# Altium integrated library Capacitor - Aluminium TH.IntLib: 4591 symbols (part 34 of 68)
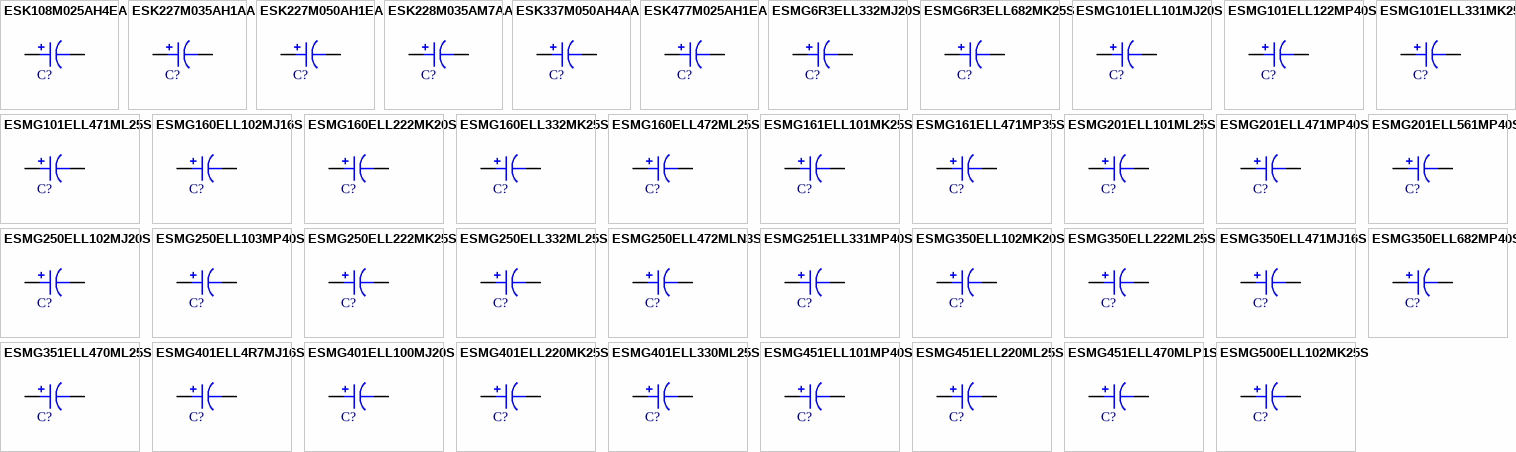
[diagram p147: symbols ESK108M025AH4EA to ESMG500ELL102MK25S]

## ESMG160ELL222MK20S
designator C?, comment 2200uF  (value not drawn)
CAP ALUM 2200UF 20% 16V RADIAL; Part Number: ESMG160ELL222MK20S; Manufacturer: United Chemi-Con; TemperatureRange: -40C ~ 85C; Type: Polar; Ripple Current: 1.295A @ 120Hz; Value: 2200uF; PartId: 23019; Supplier 1: Digi-Key; Supplier Part Number 1: 565-1042-ND; ComponentLink1Description: Datasheet; ComponentLink1URL: http://www.chemi-con.com/upload/files/6/3/873997624d9b1bc8060f8.pdf; ComponentLink2Description: Digi-Key Listing; ComponentLink2URL: https://www.digikey.com/product-detail/en/united-chemi-con/ESMG160ELL222MK20S/565-1042-ND/755558; Tolerance: 20%; Voltage: 16V; Price: 0; Device Package: Radial, Can, 12.5mm
footprint CAP AL TH D12.5 L5 H21.5
pins: 1, 2

## ESMG160ELL332MK25S
designator C?, comment 3300uF  (value not drawn)
CAP ALUM 3300UF 20% 16V RADIAL; Part Number: ESMG160ELL332MK25S; Manufacturer: United Chemi-Con; TemperatureRange: -40C ~ 85C; Type: Polar; Ripple Current: 1.655A @ 120Hz; Value: 3300uF; PartId: 23705; Supplier 1: Digi-Key; Supplier Part Number 1: 565-1043-ND; ComponentLink1Description: Datasheet; ComponentLink1URL: http://www.chemi-con.com/upload/files/6/3/873997624d9b1bc8060f8.pdf; ComponentLink2Description: Digi-Key Listing; ComponentLink2URL: https://www.digikey.com/product-detail/en/united-chemi-con/ESMG160ELL332MK25S/565-1043-ND/755559; Tolerance: 20%; Voltage: 16V; Price: 1.14; Device Package: Radial, Can, 12.5mm
footprint CAP AL TH D12.5 L5 H26.5
pins: 1, 2

## ESMG160ELL472ML25S
designator C?, comment 4700uF  (value not drawn)
CAP ALUM 4700UF 20% 16V RADIAL; Part Number: ESMG160ELL472ML25S; Manufacturer: United Chemi-Con; TemperatureRange: -40C ~ 85C; Type: Polar; Ripple Current: 2.09A @ 120Hz; Value: 4700uF; PartId: 26664; Supplier 1: Digi-Key; Supplier Part Number 1: 565-1044-ND; ComponentLink1Description: Datasheet; ComponentLink1URL: http://www.chemi-con.com/upload/files/6/3/873997624d9b1bc8060f8.pdf; ComponentLink2Description: Digi-Key Listing; ComponentLink2URL: https://www.digikey.com/product-detail/en/united-chemi-con/ESMG160ELL472ML25S/565-1044-ND/755560; Tolerance: 20%; Voltage: 16V; Price: 1.63; Device Package: Radial, Can, 16mm
footprint CAP AL TH D16 L7.5 H26.5
pins: 1, 2

## ESMG161ELL101MK25S
designator C?, comment 100uF  (value not drawn)
CAP ALUM 100UF 20% 160V RADIAL; Part Number: ESMG161ELL101MK25S; Manufacturer: United Chemi-Con; TemperatureRange: -40C ~ 85C; Type: Polar; Ripple Current: 430mA @ 120Hz; Value: 100uF; PartId: 23738; Supplier 1: Digi-Key; Supplier Part Number 1: 565-1169-ND; ComponentLink1Description: Datasheet; ComponentLink1URL: http://www.chemi-con.com/upload/files/6/3/873997624d9b1bc8060f8.pdf; ComponentLink2Description: Digi-Key Listing; ComponentLink2URL: https://www.digikey.com/product-detail/en/united-chemi-con/ESMG161ELL101MK25S/565-1169-ND/755685; Tolerance: 20%; Voltage: 160V; Price: 1.54; Device Package: Radial, Can, 12.5mm
footprint CAP AL TH D12.5 L5 H26.5
pins: 1, 2

## ESMG161ELL471MP35S
designator C?, comment 470uF  (value not drawn)
CAP ALUM 470UF 20% 160V RADIAL; Part Number: ESMG161ELL471MP35S; Manufacturer: United Chemi-Con; TemperatureRange: -40C ~ 85C; Type: Polar; Ripple Current: 1.34A @ 120Hz; Value: 470uF; PartId: 27604; Supplier 1: Digi-Key; Supplier Part Number 1: 565-1176-ND; ComponentLink1Description: Datasheet; ComponentLink1URL: http://www.chemi-con.com/upload/files/6/3/873997624d9b1bc8060f8.pdf; ComponentLink2Description: Digi-Key Listing; ComponentLink2URL: https://www.digikey.com/product-detail/en/united-chemi-con/ESMG161ELL471MP35S/565-1176-ND/755692; Tolerance: 20%; Voltage: 160V; Price: 4.85; Device Package: Radial, Can, 22mm
footprint CAP AL TH D22 L10 H43
pins: 1, 2

## ESMG201ELL101ML25S
designator C?, comment 100uF  (value not drawn)
CAP ALUM 100UF 20% 200V RADIAL; Part Number: ESMG201ELL101ML25S; Manufacturer: United Chemi-Con; TemperatureRange: -40C ~ 85C; Type: Polar; Ripple Current: 475mA @ 120Hz; Value: 100uF; PartId: 26702; Supplier 1: Digi-Key; Supplier Part Number 1: 565-1185-ND; ComponentLink1Description: Datasheet; ComponentLink1URL: http://www.chemi-con.com/upload/files/6/3/873997624d9b1bc8060f8.pdf; ComponentLink2Description: Digi-Key Listing; ComponentLink2URL: https://www.digikey.com/product-detail/en/united-chemi-con/ESMG201ELL101ML25S/565-1185-ND/755701; Tolerance: 20%; Voltage: 200V; Price: 2.01; Device Package: Radial, Can, 16mm
footprint CAP AL TH D16 L7.5 H26.5
pins: 1, 2

## ESMG201ELL471MP40S
designator C?, comment 470uF  (value not drawn)
CAP ALUM 470UF 20% 200V RADIAL; Part Number: ESMG201ELL471MP40S; Manufacturer: United Chemi-Con; TemperatureRange: -40C ~ 85C; Type: Polar; Ripple Current: 1.35A @ 120Hz; Value: 470uF; PartId: 27585; Supplier 1: Digi-Key; Supplier Part Number 1: 565-1195-ND; ComponentLink1Description: Datasheet; ComponentLink1URL: http://www.chemi-con.com/upload/files/6/3/873997624d9b1bc8060f8.pdf; ComponentLink2Description: Digi-Key Listing; ComponentLink2URL: https://www.digikey.com/product-detail/en/united-chemi-con/ESMG201ELL471MP40S/565-1195-ND/755711; Tolerance: 20%; Voltage: 200V; Price: 4.93; Device Package: Radial, Can, 22mm
footprint CAP AL TH D22 L10 H43
pins: 1, 2

## ESMG201ELL561MP40S
designator C?, comment 560uF  (value not drawn)
CAP ALUM 560UF 20% 200V RADIAL; Part Number: ESMG201ELL561MP40S; Manufacturer: United Chemi-Con; TemperatureRange: -40C ~ 85C; Type: Polar; Ripple Current: 1.43A @ 120Hz; Value: 560uF; PartId: 27586; Supplier 1: Digi-Key; Supplier Part Number 1: 565-1196-ND; ComponentLink1Description: Datasheet; ComponentLink1URL: http://www.chemi-con.com/upload/files/6/3/873997624d9b1bc8060f8.pdf; ComponentLink2Description: Digi-Key Listing; ComponentLink2URL: https://www.digikey.com/product-detail/en/united-chemi-con/ESMG201ELL561MP40S/565-1196-ND/755712; Tolerance: 20%; Voltage: 200V; Price: 5.45; Device Package: Radial, Can, 22mm
footprint CAP AL TH D22 L10 H43
pins: 1, 2

## ESMG250ELL102MJ20S
designator C?, comment 1000uF  (value not drawn)
CAP ALUM 1000UF 20% 25V RADIAL; Part Number: ESMG250ELL102MJ20S; Manufacturer: United Chemi-Con; TemperatureRange: -40C ~ 85C; Type: Polar; Ripple Current: 955mA @ 120Hz; Value: 1000uF; PartId: 25638; Supplier 1: Digi-Key; Supplier Part Number 1: 565-1063-ND; ComponentLink1Description: Datasheet; ComponentLink1URL: http://www.chemi-con.com/upload/files/6/3/873997624d9b1bc8060f8.pdf; ComponentLink2Description: Digi-Key Listing; ComponentLink2URL: https://www.digikey.com/product-detail/en/united-chemi-con/ESMG250ELL102MJ20S/565-1063-ND/755579; Tolerance: 20%; Voltage: 25V; Price: 0.73; Device Package: Radial, Can, 10mm
footprint CAP AL TH D10 L5 H22
pins: 1, 2

## ESMG250ELL103MP40S
designator C?, comment 10000uF  (value not drawn)
CAP ALUM 10000UF 20% 25V RADIAL; Part Number: ESMG250ELL103MP40S; Manufacturer: United Chemi-Con; TemperatureRange: -40C ~ 85C; Type: Polar; Ripple Current: 3.24A @ 120Hz; Value: 10000uF; PartId: 27579; Supplier 1: Digi-Key; Supplier Part Number 1: 565-1074-ND; ComponentLink1Description: Datasheet; ComponentLink1URL: http://www.chemi-con.com/upload/files/6/3/873997624d9b1bc8060f8.pdf; ComponentLink2Description: Digi-Key Listing; ComponentLink2URL: https://www.digikey.com/product-detail/en/united-chemi-con/ESMG250ELL103MP40S/565-1074-ND/755590; Tolerance: 20%; Voltage: 25V; Price: 4.53; Device Package: Radial, Can, 22mm
footprint CAP AL TH D22 L10 H43
pins: 1, 2

## ESMG250ELL222MK25S
designator C?, comment 2200uF  (value not drawn)
CAP ALUM 2200UF 20% 25V RADIAL; Part Number: ESMG250ELL222MK25S; Manufacturer: United Chemi-Con; TemperatureRange: -40C ~ 85C; Type: Polar; Ripple Current: 1.54A @ 120Hz; Value: 2200uF; PartId: 23707; Supplier 1: Digi-Key; Supplier Part Number 1: 565-1064-ND; ComponentLink1Description: Datasheet; ComponentLink1URL: http://www.chemi-con.com/upload/files/6/3/873997624d9b1bc8060f8.pdf; ComponentLink2Description: Digi-Key Listing; ComponentLink2URL: https://www.digikey.com/product-detail/en/united-chemi-con/ESMG250ELL222MK25S/565-1064-ND/755580; Tolerance: 20%; Voltage: 25V; Price: 1.15; Device Package: Radial, Can, 12.5mm
footprint CAP AL TH D12.5 L5 H26.5
pins: 1, 2

## ESMG250ELL332ML25S
designator C?, comment 3300uF  (value not drawn)
CAP ALUM 3300UF 20% 25V RADIAL; Part Number: ESMG250ELL332ML25S; Manufacturer: United Chemi-Con; TemperatureRange: -40C ~ 85C; Type: Polar; Ripple Current: 1.975A @ 120Hz; Value: 3300uF; PartId: 26684; Supplier 1: Digi-Key; Supplier Part Number 1: 565-1065-ND; ComponentLink1Description: Datasheet; ComponentLink1URL: http://www.chemi-con.com/upload/files/6/3/873997624d9b1bc8060f8.pdf; ComponentLink2Description: Digi-Key Listing; ComponentLink2URL: https://www.digikey.com/product-detail/en/united-chemi-con/ESMG250ELL332ML25S/565-1065-ND/755581; Tolerance: 20%; Voltage: 25V; Price: 1.81; Device Package: Radial, Can, 16mm
footprint CAP AL TH D16 L7.5 H26.5
pins: 1, 2

## ESMG250ELL472MLN3S
designator C?, comment 4700uF  (value not drawn)
CAP ALUM 4700UF 20% 25V RADIAL; Part Number: ESMG250ELL472MLN3S; Manufacturer: United Chemi-Con; TemperatureRange: -40C ~ 85C; Type: Polar; Ripple Current: 2.42A @ 120Hz; Value: 4700uF; PartId: 27179; Supplier 1: Digi-Key; Supplier Part Number 1: 565-1067-ND; ComponentLink1Description: Datasheet; ComponentLink1URL: http://www.chemi-con.com/upload/files/6/3/873997624d9b1bc8060f8.pdf; ComponentLink2Description: Digi-Key Listing; ComponentLink2URL: https://www.digikey.com/product-detail/en/united-chemi-con/ESMG250ELL472MLN3S/565-1067-ND/755583; Tolerance: 20%; Voltage: 25V; Price: 1.95; Device Package: Radial, Can, 16mm
footprint CAP AL TH D16 L7.5 H33.5
pins: 1, 2

## ESMG251ELL331MP40S
designator C?, comment 330uF  (value not drawn)
CAP ALUM 330UF 20% 250V RADIAL; Part Number: ESMG251ELL331MP40S; Manufacturer: United Chemi-Con; TemperatureRange: -40C ~ 85C; Type: Polar; Ripple Current: 1.06A @ 120Hz; Value: 330uF; PartId: 27582; Supplier 1: Digi-Key; Supplier Part Number 1: 565-1214-ND; ComponentLink1Description: Datasheet; ComponentLink1URL: http://www.chemi-con.com/upload/files/6/3/873997624d9b1bc8060f8.pdf; ComponentLink2Description: Digi-Key Listing; ComponentLink2URL: https://www.digikey.com/product-detail/en/united-chemi-con/ESMG251ELL331MP40S/565-1214-ND/755730; Tolerance: 20%; Voltage: 250V; Price: 5.1; Device Package: Radial, Can, 22mm
footprint CAP AL TH D22 L10 H43
pins: 1, 2

## ESMG350ELL102MK20S
designator C?, comment 1000uF  (value not drawn)
CAP ALUM 1000UF 20% 35V RADIAL; Part Number: ESMG350ELL102MK20S; Manufacturer: United Chemi-Con; TemperatureRange: -40C ~ 85C; Type: Polar; Ripple Current: 1.145A @ 120Hz; Value: 1000uF; PartId: 23012; Supplier 1: Digi-Key; Supplier Part Number 1: 565-1086-ND; ComponentLink1Description: Datasheet; ComponentLink1URL: http://www.chemi-con.com/upload/files/6/3/873997624d9b1bc8060f8.pdf; ComponentLink2Description: Digi-Key Listing; ComponentLink2URL: https://www.digikey.com/product-detail/en/united-chemi-con/ESMG350ELL102MK20S/565-1086-ND/755602; Tolerance: 20%; Voltage: 35V; Price: 0; Device Package: Radial, Can, 12.5mm
footprint CAP AL TH D12.5 L5 H21.5
pins: 1, 2

## ESMG350ELL222ML25S
designator C?, comment 2200uF  (value not drawn)
CAP ALUM 2200UF 20% 35V RADIAL; Part Number: ESMG350ELL222ML25S; Manufacturer: United Chemi-Con; TemperatureRange: -40C ~ 85C; Type: Polar; Ripple Current: 1.785A @ 120Hz; Value: 2200uF; PartId: 26675; Supplier 1: Digi-Key; Supplier Part Number 1: 565-1087-ND; ComponentLink1Description: Datasheet; ComponentLink1URL: http://www.chemi-con.com/upload/files/6/3/873997624d9b1bc8060f8.pdf; ComponentLink2Description: Digi-Key Listing; ComponentLink2URL: https://www.digikey.com/product-detail/en/united-chemi-con/ESMG350ELL222ML25S/565-1087-ND/755603; Tolerance: 20%; Voltage: 35V; Price: 1.78; Device Package: Radial, Can, 16mm
footprint CAP AL TH D16 L7.5 H26.5
pins: 1, 2

## ESMG350ELL471MJ16S
designator C?, comment 470uF  (value not drawn)
CAP ALUM 470UF 20% 35V RADIAL; Part Number: ESMG350ELL471MJ16S; Manufacturer: United Chemi-Con; TemperatureRange: -40C ~ 85C; Type: Polar; Ripple Current: 645mA @ 120Hz; Value: 470uF; PartId: 25320; Supplier 1: Digi-Key; Supplier Part Number 1: 565-1085-ND; ComponentLink1Description: Datasheet; ComponentLink1URL: http://www.chemi-con.com/upload/files/6/3/873997624d9b1bc8060f8.pdf; ComponentLink2Description: Digi-Key Listing; ComponentLink2URL: https://www.digikey.com/product-detail/en/united-chemi-con/ESMG350ELL471MJ16S/565-1085-ND/755601; Tolerance: 20%; Voltage: 35V; Price: 0.66; Device Package: Radial, Can, 10mm
footprint CAP AL TH D10 L5 H17.5
pins: 1, 2

## ESMG350ELL682MP40S
designator C?, comment 6800uF  (value not drawn)
CAP ALUM 6800UF 20% 35V RADIAL; Part Number: ESMG350ELL682MP40S; Manufacturer: United Chemi-Con; TemperatureRange: -40C ~ 85C; Type: Polar; Ripple Current: 3.09A @ 120Hz; Value: 6800uF; PartId: 27593; Supplier 1: Digi-Key; Supplier Part Number 1: 565-1096-ND; ComponentLink1Description: Datasheet; ComponentLink1URL: http://www.chemi-con.com/upload/files/6/3/873997624d9b1bc8060f8.pdf; ComponentLink2Description: Digi-Key Listing; ComponentLink2URL: https://www.digikey.com/product-detail/en/united-chemi-con/ESMG350ELL682MP40S/565-1096-ND/755612; Tolerance: 20%; Voltage: 35V; Price: 4.65; Device Package: Radial, Can, 22mm
footprint CAP AL TH D22 L10 H43
pins: 1, 2

## ESMG351ELL470ML25S
designator C?, comment 47uF  (value not drawn)
CAP ALUM 47UF 20% 350V RADIAL; Part Number: ESMG351ELL470ML25S; Manufacturer: United Chemi-Con; TemperatureRange: -40C ~ 85C; Type: Polar; Ripple Current: 325mA @ 120Hz; Value: 47uF; PartId: 26705; Supplier 1: Digi-Key; Supplier Part Number 1: 565-1224-ND; ComponentLink1Description: Datasheet; ComponentLink1URL: http://www.chemi-con.com/upload/files/6/3/873997624d9b1bc8060f8.pdf; ComponentLink2Description: Digi-Key Listing; ComponentLink2URL: https://www.digikey.com/product-detail/en/united-chemi-con/ESMG351ELL470ML25S/565-1224-ND/755740; Tolerance: 20%; Voltage: 350V; Price: 2.22; Device Package: Radial, Can, 16mm
footprint CAP AL TH D16 L7.5 H26.5
pins: 1, 2

## ESMG401ELL4R7MJ16S
designator C?, comment 4.7uF  (value not drawn)
CAP ALUM 4.7UF 20% 400V RADIAL; Part Number: ESMG401ELL4R7MJ16S; Manufacturer: United Chemi-Con; TemperatureRange: -40C ~ 85C; Type: Polar; Ripple Current: 71mA @ 120Hz; Value: 4.7uF; PartId: 25412; Supplier 1: Digi-Key; Supplier Part Number 1: 565-1230-ND; ComponentLink1Description: Datasheet; ComponentLink1URL: http://www.chemi-con.com/upload/files/6/3/873997624d9b1bc8060f8.pdf; ComponentLink2Description: Digi-Key Listing; ComponentLink2URL: https://www.digikey.com/product-detail/en/united-chemi-con/ESMG401ELL4R7MJ16S/565-1230-ND/755746; Tolerance: 20%; Voltage: 400V; Price: 0.84; Device Package: Radial, Can, 10mm
footprint CAP AL TH D10 L5 H17.5
pins: 1, 2

## ESMG401ELL100MJ20S
designator C?, comment 10uF  (value not drawn)
CAP ALUM 10UF 20% 400V RADIAL; Part Number: ESMG401ELL100MJ20S; Manufacturer: United Chemi-Con; TemperatureRange: -40C ~ 85C; Type: Polar; Ripple Current: 115mA @ 120Hz; Value: 10uF; PartId: 25703; Supplier 1: Digi-Key; Supplier Part Number 1: 565-1231-ND; ComponentLink1Description: Datasheet; ComponentLink1URL: http://www.chemi-con.com/upload/files/6/3/873997624d9b1bc8060f8.pdf; ComponentLink2Description: Digi-Key Listing; ComponentLink2URL: https://www.digikey.com/product-detail/en/united-chemi-con/ESMG401ELL100MJ20S/565-1231-ND/755747; Tolerance: 20%; Voltage: 400V; Price: 0.9; Device Package: Radial, Can, 10mm
footprint CAP AL TH D10 L5 H22
pins: 1, 2

## ESMG401ELL220MK25S
designator C?, comment 22uF  (value not drawn)
CAP ALUM 22UF 20% 400V RADIAL; Part Number: ESMG401ELL220MK25S; Manufacturer: United Chemi-Con; TemperatureRange: -40C ~ 85C; Type: Polar; Ripple Current: 205mA @ 120Hz; Value: 22uF; PartId: 23732; Supplier 1: Digi-Key; Supplier Part Number 1: 565-1232-ND; ComponentLink1Description: Datasheet; ComponentLink1URL: http://www.chemi-con.com/upload/files/6/3/873997624d9b1bc8060f8.pdf; ComponentLink2Description: Digi-Key Listing; ComponentLink2URL: https://www.digikey.com/product-detail/en/united-chemi-con/ESMG401ELL220MK25S/565-1232-ND/755748; Tolerance: 20%; Voltage: 400V; Price: 1.46; Device Package: Radial, Can, 12.5mm
footprint CAP AL TH D12.5 L5 H26.5
pins: 1, 2

## ESMG401ELL330ML25S
designator C?, comment 33uF  (value not drawn)
CAP ALUM 33UF 20% 400V RADIAL; Part Number: ESMG401ELL330ML25S; Manufacturer: United Chemi-Con; TemperatureRange: -40C ~ 85C; Type: Polar; Ripple Current: 275mA @ 120Hz; Value: 33uF; PartId: 26694; Supplier 1: Digi-Key; Supplier Part Number 1: 565-1233-ND; ComponentLink1Description: Datasheet; ComponentLink1URL: http://www.chemi-con.com/upload/files/6/3/873997624d9b1bc8060f8.pdf; ComponentLink2Description: Digi-Key Listing; ComponentLink2URL: https://www.digikey.com/product-detail/en/united-chemi-con/ESMG401ELL330ML25S/565-1233-ND/755749; Tolerance: 20%; Voltage: 400V; Price: 1.85; Device Package: Radial, Can, 16mm
footprint CAP AL TH D16 L7.5 H26.5
pins: 1, 2

## ESMG451ELL101MP40S
designator C?, comment 100uF  (value not drawn)
CAP ALUM 100UF 20% 450V RADIAL; Part Number: ESMG451ELL101MP40S; Manufacturer: United Chemi-Con; TemperatureRange: -25C ~ 85C; Type: Polar; Ripple Current: 470mA @ 120Hz; Value: 100uF; PartId: 27605; Supplier 1: Digi-Key; Supplier Part Number 1: 565-1260-ND; ComponentLink1Description: Datasheet; ComponentLink1URL: http://www.chemi-con.com/upload/files/6/3/873997624d9b1bc8060f8.pdf; ComponentLink2Description: Digi-Key Listing; ComponentLink2URL: https://www.digikey.com/product-detail/en/united-chemi-con/ESMG451ELL101MP40S/565-1260-ND/755776; Tolerance: 20%; Voltage: 450V; Price: 6.37; Device Package: Radial, Can, 22mm
footprint CAP AL TH D22 L10 H43
pins: 1, 2

## ESMG451ELL220ML25S
designator C?, comment 22uF  (value not drawn)
CAP ALUM 22UF 20% 450V RADIAL; Part Number: ESMG451ELL220ML25S; Manufacturer: United Chemi-Con; TemperatureRange: -25C ~ 85C; Type: Polar; Ripple Current: 165mA @ 120Hz; Value: 22uF; PartId: 26698; Supplier 1: Digi-Key; Supplier Part Number 1: 565-1249-ND; ComponentLink1Description: Datasheet; ComponentLink1URL: http://www.chemi-con.com/upload/files/6/3/873997624d9b1bc8060f8.pdf; ComponentLink2Description: Digi-Key Listing; ComponentLink2URL: https://www.digikey.com/product-detail/en/united-chemi-con/ESMG451ELL220ML25S/565-1249-ND/755765; Tolerance: 20%; Voltage: 450V; Price: 1.95; Device Package: Radial, Can, 16mm
footprint CAP AL TH D16 L7.5 H26.5
pins: 1, 2

## ESMG451ELL470MLP1S
designator C?, comment 47uF  (value not drawn)
CAP ALUM 47UF 20% 450V RADIAL; Part Number: ESMG451ELL470MLP1S; Manufacturer: United Chemi-Con; TemperatureRange: -25C ~ 85C; Type: Polar; Ripple Current: 265mA @ 120Hz; Value: 47uF; PartId: 27426; Supplier 1: Digi-Key; Supplier Part Number 1: 565-1253-ND; ComponentLink1Description: Datasheet; ComponentLink1URL: http://www.chemi-con.com/upload/files/6/3/873997624d9b1bc8060f8.pdf; ComponentLink2Description: Digi-Key Listing; ComponentLink2URL: https://www.digikey.com/product-detail/en/united-chemi-con/ESMG451ELL470MLP1S/565-1253-ND/755769; Tolerance: 20%; Voltage: 450V; Price: 2.82; Device Package: Radial, Can, 16mm
footprint CAP AL TH D16 L7.5 H37
pins: 1, 2

## ESMG500ELL102MK25S
designator C?, comment 1000uF  (value not drawn)
CAP ALUM 1000UF 20% 50V RADIAL; Part Number: ESMG500ELL102MK25S; Manufacturer: United Chemi-Con; TemperatureRange: -40C ~ 85C; Type: Polar; Ripple Current: 1.34A @ 120Hz; Value: 1000uF; PartId: 23720; Supplier 1: Digi-Key; Supplier Part Number 1: 565-1114-ND; ComponentLink1Description: Datasheet; ComponentLink1URL: http://www.chemi-con.com/upload/files/6/3/873997624d9b1bc8060f8.pdf; ComponentLink2Description: Digi-Key Listing; ComponentLink2URL: https://www.digikey.com/product-detail/en/united-chemi-con/ESMG500ELL102MK25S/565-1114-ND/755630; Tolerance: 20%; Voltage: 50V; Price: 1.26; Device Package: Radial, Can, 12.5mm
footprint CAP AL TH D12.5 L5 H26.5
pins: 1, 2

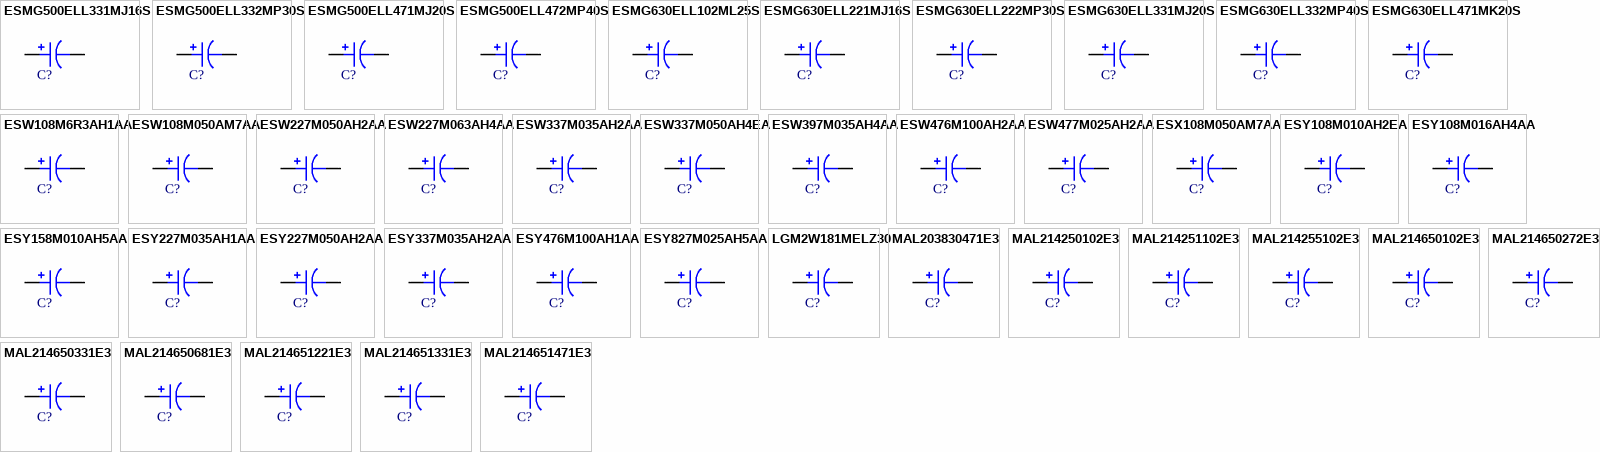
[diagram p55: symbols ESMG500ELL331MJ16S to MAL214651471E3]

## ESMG500ELL331MJ16S
designator C?, comment 330uF  (value not drawn)
CAP ALUM 330UF 20% 50V RADIAL; Part Number: ESMG500ELL331MJ16S; Manufacturer: United Chemi-Con; TemperatureRange: -40C ~ 85C; Type: Polar; Ripple Current: 585mA @ 120Hz; Value: 330uF; PartId: 25341; Supplier 1: Digi-Key; Supplier Part Number 1: 565-1112-ND; ComponentLink1Description: Datasheet; ComponentLink1URL: http://www.chemi-con.com/upload/files/6/3/873997624d9b1bc8060f8.pdf; ComponentLink2Description: Digi-Key Listing; ComponentLink2URL: https://www.digikey.com/product-detail/en/united-chemi-con/ESMG500ELL331MJ16S/565-1112-ND/755628; Tolerance: 20%; Voltage: 50V; Price: 0.67; Device Package: Radial, Can, 10mm
footprint CAP AL TH D10 L5 H17.5
pins: 1, 2

## ESMG500ELL332MP30S
designator C?, comment 3300uF  (value not drawn)
CAP ALUM 3300UF 20% 50V RADIAL; Part Number: ESMG500ELL332MP30S; Manufacturer: United Chemi-Con; TemperatureRange: -40C ~ 85C; Type: Polar; Ripple Current: 2.42A @ 120Hz; Value: 3300uF; PartId: 27565; Supplier 1: Digi-Key; Supplier Part Number 1: 565-1120-ND; ComponentLink1Description: Datasheet; ComponentLink1URL: http://www.chemi-con.com/upload/files/6/3/873997624d9b1bc8060f8.pdf; ComponentLink2Description: Digi-Key Listing; ComponentLink2URL: https://www.digikey.com/product-detail/en/united-chemi-con/ESMG500ELL332MP30S/565-1120-ND/755636; Tolerance: 20%; Voltage: 50V; Price: 4.05; Device Package: Radial, Can, 22mm
footprint CAP AL TH D22 L10 H33
pins: 1, 2

## ESMG500ELL471MJ20S
designator C?, comment 470uF  (value not drawn)
CAP ALUM 470UF 20% 50V RADIAL; Part Number: ESMG500ELL471MJ20S; Manufacturer: United Chemi-Con; TemperatureRange: -40C ~ 85C; Type: Polar; Ripple Current: 755mA @ 120Hz; Value: 470uF; PartId: 25670; Supplier 1: Digi-Key; Supplier Part Number 1: 565-1113-ND; ComponentLink1Description: Datasheet; ComponentLink1URL: http://www.chemi-con.com/upload/files/6/3/873997624d9b1bc8060f8.pdf; ComponentLink2Description: Digi-Key Listing; ComponentLink2URL: https://www.digikey.com/product-detail/en/united-chemi-con/ESMG500ELL471MJ20S/565-1113-ND/755629; Tolerance: 20%; Voltage: 50V; Price: 0.77; Device Package: Radial, Can, 10mm
footprint CAP AL TH D10 L5 H22
pins: 1, 2

## ESMG500ELL472MP40S
designator C?, comment 4700uF  (value not drawn)
CAP ALUM 4700UF 20% 50V RADIAL; Part Number: ESMG500ELL472MP40S; Manufacturer: United Chemi-Con; TemperatureRange: -40C ~ 85C; Type: Polar; Ripple Current: 2.96A @ 120Hz; Value: 4700uF; PartId: 27581; Supplier 1: Digi-Key; Supplier Part Number 1: 565-1122-ND; ComponentLink1Description: Datasheet; ComponentLink1URL: http://www.chemi-con.com/upload/files/6/3/873997624d9b1bc8060f8.pdf; ComponentLink2Description: Digi-Key Listing; ComponentLink2URL: https://www.digikey.com/product-detail/en/united-chemi-con/ESMG500ELL472MP40S/565-1122-ND/755638; Tolerance: 20%; Voltage: 50V; Price: 4.9; Device Package: Radial, Can, 22mm
footprint CAP AL TH D22 L10 H43
pins: 1, 2

## ESMG630ELL102ML25S
designator C?, comment 1000uF  (value not drawn)
CAP ALUM 1000UF 20% 63V RADIAL; Part Number: ESMG630ELL102ML25S; Manufacturer: United Chemi-Con; TemperatureRange: -40C ~ 85C; Type: Polar; Ripple Current: 1.3A @ 120Hz; Value: 1000uF; PartId: 26685; Supplier 1: Digi-Key; Supplier Part Number 1: 565-1133-ND; ComponentLink1Description: Datasheet; ComponentLink1URL: http://www.chemi-con.com/upload/files/6/3/873997624d9b1bc8060f8.pdf; ComponentLink2Description: Digi-Key Listing; ComponentLink2URL: https://www.digikey.com/product-detail/en/united-chemi-con/ESMG630ELL102ML25S/565-1133-ND/755649; Tolerance: 20%; Voltage: 63V; Price: 1.81; Device Package: Radial, Can, 16mm
footprint CAP AL TH D16 L7.5 H26.5
pins: 1, 2

## ESMG630ELL221MJ16S
designator C?, comment 220uF  (value not drawn)
CAP ALUM 220UF 20% 63V RADIAL; Part Number: ESMG630ELL221MJ16S; Manufacturer: United Chemi-Con; TemperatureRange: -40C ~ 85C; Type: Polar; Ripple Current: 490mA @ 120Hz; Value: 220uF; PartId: 25335; Supplier 1: Digi-Key; Supplier Part Number 1: 565-1129-ND; ComponentLink1Description: Datasheet; ComponentLink1URL: http://www.chemi-con.com/upload/files/6/3/873997624d9b1bc8060f8.pdf; ComponentLink2Description: Digi-Key Listing; ComponentLink2URL: https://www.digikey.com/product-detail/en/united-chemi-con/ESMG630ELL221MJ16S/565-1129-ND/755645; Tolerance: 20%; Voltage: 63V; Price: 0.67; Device Package: Radial, Can, 10mm
footprint CAP AL TH D10 L5 H17.5
pins: 1, 2

## ESMG630ELL222MP30S
designator C?, comment 2200uF  (value not drawn)
CAP ALUM 2200UF 20% 63V RADIAL; Part Number: ESMG630ELL222MP30S; Manufacturer: United Chemi-Con; TemperatureRange: -40C ~ 85C; Type: Polar; Ripple Current: 2.19A @ 120Hz; Value: 2200uF; PartId: 27563; Supplier 1: Digi-Key; Supplier Part Number 1: 565-1137-ND; ComponentLink1Description: Datasheet; ComponentLink1URL: http://www.chemi-con.com/upload/files/6/3/873997624d9b1bc8060f8.pdf; ComponentLink2Description: Digi-Key Listing; ComponentLink2URL: https://www.digikey.com/product-detail/en/united-chemi-con/ESMG630ELL222MP30S/565-1137-ND/755653; Tolerance: 20%; Voltage: 63V; Price: 4.28; Device Package: Radial, Can, 22mm
footprint CAP AL TH D22 L10 H33
pins: 1, 2

## ESMG630ELL331MJ20S
designator C?, comment 330uF  (value not drawn)
CAP ALUM 330UF 20% 63V RADIAL; Part Number: ESMG630ELL331MJ20S; Manufacturer: United Chemi-Con; TemperatureRange: -40C ~ 85C; Type: Polar; Ripple Current: 710mA @ 120Hz; Value: 330uF; PartId: 25671; Supplier 1: Digi-Key; Supplier Part Number 1: 565-1130-ND; ComponentLink1Description: Datasheet; ComponentLink1URL: http://www.chemi-con.com/upload/files/6/3/873997624d9b1bc8060f8.pdf; ComponentLink2Description: Digi-Key Listing; ComponentLink2URL: https://www.digikey.com/product-detail/en/united-chemi-con/ESMG630ELL331MJ20S/565-1130-ND/755646; Tolerance: 20%; Voltage: 63V; Price: 0.77; Device Package: Radial, Can, 10mm
footprint CAP AL TH D10 L5 H22
pins: 1, 2

## ESMG630ELL332MP40S
designator C?, comment 3300uF  (value not drawn)
CAP ALUM 3300UF 20% 63V RADIAL; Part Number: ESMG630ELL332MP40S; Manufacturer: United Chemi-Con; TemperatureRange: -40C ~ 85C; Type: Polar; Ripple Current: 2.81A @ 120Hz; Value: 3300uF; PartId: 27583; Supplier 1: Digi-Key; Supplier Part Number 1: 565-1138-ND; ComponentLink1Description: Datasheet; ComponentLink1URL: http://www.chemi-con.com/upload/files/6/3/873997624d9b1bc8060f8.pdf; ComponentLink2Description: Digi-Key Listing; ComponentLink2URL: https://www.digikey.com/product-detail/en/united-chemi-con/ESMG630ELL332MP40S/565-1138-ND/755654; Tolerance: 20%; Voltage: 63V; Price: 5.18; Device Package: Radial, Can, 22mm
footprint CAP AL TH D22 L10 H43
pins: 1, 2

## ESMG630ELL471MK20S
designator C?, comment 470uF  (value not drawn)
CAP ALUM 470UF 20% 63V RADIAL; Part Number: ESMG630ELL471MK20S; Manufacturer: United Chemi-Con; TemperatureRange: -40C ~ 85C; Type: Polar; Ripple Current: 900mA @ 120Hz; Value: 470uF; PartId: 23023; Supplier 1: Digi-Key; Supplier Part Number 1: 565-1131-ND; ComponentLink1Description: Datasheet; ComponentLink1URL: http://www.chemi-con.com/upload/files/6/3/873997624d9b1bc8060f8.pdf; ComponentLink2Description: Digi-Key Listing; ComponentLink2URL: https://www.digikey.com/product-detail/en/united-chemi-con/ESMG630ELL471MK20S/565-1131-ND/755647; Tolerance: 20%; Voltage: 63V; Price: 0; Device Package: Radial, Can, 12.5mm
footprint CAP AL TH D12.5 L5 H21.5
pins: 1, 2

## ESW108M6R3AH1AA
designator C?, comment 1000uF  (value not drawn)
CAP ALUM 1000UF 20% 6.3V RADIAL; Part Number: ESW108M6R3AH1AA; Manufacturer: KEMET; TemperatureRange: -40C ~ 105C; Type: Polar; Ripple Current: 453mA @ 120Hz; Impedance: 90 mOhm; Value: 1000uF; PartId: 24830; Supplier 1: Digi-Key; Supplier Part Number 1: 399-6625-ND; ComponentLink1Description: Datasheet; ComponentLink1URL: http://www.kemet.com/docfinder?Partnumber=ESW108M6R3AH1AA; ComponentLink2Description: Digi-Key Listing; ComponentLink2URL: https://www.digikey.com/product-detail/en/kemet/ESW108M6R3AH1AA/399-6625-ND/3083040; Tolerance: 20%; Voltage: 6.3V; Price: 0.46; Device Package: Radial, Can, 10mm
footprint CAP AL TH D10 L5 H14.5
pins: 1, 2

## ESW108M050AM7AA
designator C?, comment 1000uF  (value not drawn)
CAP ALUM 1000UF 20% 50V RADIAL; Part Number: ESW108M050AM7AA; Manufacturer: KEMET; TemperatureRange: -40C ~ 105C; Type: Polar; Ripple Current: 1.341A @ 120Hz; Impedance: 34 mOhm; Value: 1000uF; PartId: 26921; Supplier 1: Digi-Key; Supplier Part Number 1: 399-6623-ND; ComponentLink1Description: Datasheet; ComponentLink1URL: http://www.kemet.com/docfinder?Partnumber=ESW108M050AM7AA; ComponentLink2Description: Digi-Key Listing; ComponentLink2URL: https://www.digikey.com/product-detail/en/kemet/ESW108M050AM7AA/399-6623-ND/3083038; Tolerance: 20%; Voltage: 50V; Price: 1.7; Device Package: Radial, Can, 16mm
footprint CAP AL TH D16 L7.5 H27
pins: 1, 2

## ESW227M050AH2AA
designator C?, comment 220uF  (value not drawn)
CAP ALUM 220UF 20% 50V RADIAL; Part Number: ESW227M050AH2AA; Manufacturer: KEMET; TemperatureRange: -40C ~ 105C; Type: Polar; Ripple Current: 425mA @ 120Hz; Impedance: 119 mOhm; Value: 220uF; PartId: 25265; Supplier 1: Digi-Key; Supplier Part Number 1: 399-6628-ND; ComponentLink1Description: Datasheet; ComponentLink1URL: http://www.kemet.com/docfinder?Partnumber=ESW227M050AH2AA; ComponentLink2Description: Digi-Key Listing; ComponentLink2URL: https://www.digikey.com/product-detail/en/kemet/ESW227M050AH2AA/399-6628-ND/3083043; Tolerance: 20%; Voltage: 50V; Price: 0.6; Device Package: Radial, Can, 10mm
footprint CAP AL TH D10 L5 H17.5
pins: 1, 2

## ESW227M063AH4AA
designator C?, comment 220uF  (value not drawn)
CAP ALUM 220UF 20% 63V RADIAL; Part Number: ESW227M063AH4AA; Manufacturer: KEMET; TemperatureRange: -40C ~ 105C; Type: Polar; Ripple Current: 442.5mA @ 120Hz; Impedance: 147 mOhm; Value: 220uF; PartId: 25641; Supplier 1: Digi-Key; Supplier Part Number 1: 399-6114-ND; ComponentLink1Description: Datasheet; ComponentLink1URL: http://www.kemet.com/docfinder?Partnumber=ESW227M063AH4AA; ComponentLink2Description: Digi-Key Listing; ComponentLink2URL: https://www.digikey.com/product-detail/en/kemet/ESW227M063AH4AA/399-6114-ND/2712543; Tolerance: 20%; Voltage: 63V; Price: 0.73; Device Package: Radial, Can, 10mm
footprint CAP AL TH D10 L5 H22
pins: 1, 2

## ESW337M035AH2AA
designator C?, comment 330uF  (value not drawn)
CAP ALUM 330UF 20% 35V RADIAL; Part Number: ESW337M035AH2AA; Manufacturer: KEMET; TemperatureRange: -40C ~ 105C; Type: Polar; Ripple Current: 577.5mA @ 120Hz; Impedance: 68 mOhm; Value: 330uF; PartId: 25216; Supplier 1: Digi-Key; Supplier Part Number 1: 399-6115-ND; ComponentLink1Description: Datasheet; ComponentLink1URL: http://www.kemet.com/docfinder?Partnumber=ESW337M035AH2AA; ComponentLink2Description: Digi-Key Listing; ComponentLink2URL: https://www.digikey.com/product-detail/en/kemet/ESW337M035AH2AA/399-6115-ND/2712545; Tolerance: 20%; Voltage: 35V; Price: 0.53; Device Package: Radial, Can, 10mm
footprint CAP AL TH D10 L5 H17.5
pins: 1, 2

## ESW337M050AH4EA
designator C?, comment 330uF  (value not drawn)
CAP ALUM 330UF 20% 50V RADIAL; Part Number: ESW337M050AH4EA; Manufacturer: KEMET; TemperatureRange: -40C ~ 105C; Type: Polar; Ripple Current: 566.5mA @ 120Hz; Impedance: 90 mOhm; Value: 330uF; PartId: 25472; Supplier 1: Digi-Key; Supplier Part Number 1: 399-6661-3-ND; ComponentLink1Description: Datasheet; ComponentLink1URL: http://www.kemet.com/docfinder?Partnumber=ESW337M050AH4EA; ComponentLink2Description: Digi-Key Listing; ComponentLink2URL: https://www.digikey.com/product-detail/en/kemet/ESW337M050AH4EA/399-6661-3-ND/3083076; Tolerance: 20%; Voltage: 50V; Price: 0.2933; Device Package: Radial, Can, 10mm
footprint CAP AL TH D10 L5 H22
pins: 1, 2

## ESW397M035AH4AA
designator C?, comment 390uF  (value not drawn)
CAP ALUM 390UF 20% 35V RADIAL; Part Number: ESW397M035AH4AA; Manufacturer: KEMET; TemperatureRange: -40C ~ 105C; Type: Polar; Ripple Current: 671mA @ 120Hz; Impedance: 52 mOhm; Value: 390uF; PartId: 25512; Supplier 1: Digi-Key; Supplier Part Number 1: 399-6630-ND; ComponentLink1Description: Datasheet; ComponentLink1URL: http://www.kemet.com/docfinder?Partnumber=ESW397M035AH4AA; ComponentLink2Description: Digi-Key Listing; ComponentLink2URL: https://www.digikey.com/product-detail/en/kemet/ESW397M035AH4AA/399-6630-ND/3083045; Tolerance: 20%; Voltage: 35V; Price: 0.54; Device Package: Radial, Can, 10mm
footprint CAP AL TH D10 L5 H22
pins: 1, 2

## ESW476M100AH2AA
designator C?, comment 47uF  (value not drawn)
CAP ALUM 47UF 20% 100V RADIAL; Part Number: ESW476M100AH2AA; Manufacturer: KEMET; TemperatureRange: -40C ~ 105C; Type: Polar; Ripple Current: 210mA @ 120Hz; Impedance: 370 mOhm; Value: 47uF; PartId: 25145; Supplier 1: Digi-Key; Supplier Part Number 1: 399-6631-ND; ComponentLink1Description: Datasheet; ComponentLink1URL: http://www.kemet.com/docfinder?Partnumber=ESW476M100AH2AA; ComponentLink2Description: Digi-Key Listing; ComponentLink2URL: https://www.digikey.com/product-detail/en/kemet/ESW476M100AH2AA/399-6631-ND/3083046; Tolerance: 20%; Voltage: 100V; Price: 0.41; Device Package: Radial, Can, 10mm
footprint CAP AL TH D10 L5 H17.5
pins: 1, 2

## ESW477M025AH2AA
designator C?, comment 470uF  (value not drawn)
CAP ALUM 470UF 20% 25V RADIAL; Part Number: ESW477M025AH2AA; Manufacturer: KEMET; TemperatureRange: -40C ~ 105C; Type: Polar; Ripple Current: 577.5mA @ 120Hz; Impedance: 68 mOhm; Value: 470uF; PartId: 25280; Supplier 1: Digi-Key; Supplier Part Number 1: 399-6116-ND; ComponentLink1Description: Datasheet; ComponentLink1URL: http://www.kemet.com/docfinder?Partnumber=ESW477M025AH2AA; ComponentLink2Description: Digi-Key Listing; ComponentLink2URL: https://www.digikey.com/product-detail/en/kemet/ESW477M025AH2AA/399-6116-ND/2712546; Tolerance: 20%; Voltage: 25V; Price: 0.62; Device Package: Radial, Can, 10mm
footprint CAP AL TH D10 L5 H17.5
pins: 1, 2

## ESX108M050AM7AA
designator C?, comment 1000uF  (value not drawn)
CAP ALUM 1000UF 20% 50V RADIAL; Part Number: ESX108M050AM7AA; Manufacturer: KEMET; TemperatureRange: -40C ~ 105C; Type: Polar; Ripple Current: 1.44A @ 120Hz; Impedance: 60 mOhm; Value: 1000uF; PartId: 26859; Supplier 1: Digi-Key; Supplier Part Number 1: 399-6635-ND; ComponentLink1Description: Datasheet; ComponentLink1URL: //media.digikey.com/pdf/Data%20Sheets/Kemet%20PDFs/Aluminum_Capacitors.pdf; ComponentLink2Description: Digi-Key Listing; ComponentLink2URL: https://www.digikey.com/product-detail/en/kemet/ESX108M050AM7AA/399-6635-ND/3083050; Tolerance: 20%; Voltage: 50V; Price: 1.22; Device Package: Radial, Can, 16mm
footprint CAP AL TH D16 L7.5 H27
pins: 1, 2

## ESY108M010AH2EA
designator C?, comment 1000uF  (value not drawn)
CAP ALUM 1000UF 20% 10V RADIAL; Part Number: ESY108M010AH2EA; Manufacturer: KEMET; TemperatureRange: -40C ~ 105C; Type: Polar; Ripple Current: 1.072A @ 120Hz; Impedance: 38 mOhm; Value: 1000uF; PartId: 25017; Supplier 1: Digi-Key; Supplier Part Number 1: 399-6662-3-ND; ComponentLink1Description: Datasheet; ComponentLink1URL: http://www.kemet.com/docfinder?Partnumber=ESY108M010AH2EA; ComponentLink2Description: Digi-Key Listing; ComponentLink2URL: https://www.digikey.com/product-detail/en/kemet/ESY108M010AH2EA/399-6662-3-ND/3083077; Tolerance: 20%; Voltage: 10V; Price: 0.16; Device Package: Radial, Can, 10mm
footprint CAP AL TH D10 L5 H17.5
pins: 1, 2

## ESY108M016AH4AA
designator C?, comment 1000uF  (value not drawn)
CAP ALUM 1000UF 20% 16V RADIAL; Part Number: ESY108M016AH4AA; Manufacturer: KEMET; TemperatureRange: -40C ~ 105C; Type: Polar; Ripple Current: 1.365A @ 120Hz; Impedance: 26 mOhm; Value: 1000uF; PartId: 25630; Supplier 1: Digi-Key; Supplier Part Number 1: 399-6637-ND; ComponentLink1Description: Datasheet; ComponentLink1URL: http://www.kemet.com/docfinder?Partnumber=ESY108M016AH4AA; ComponentLink2Description: Digi-Key Listing; ComponentLink2URL: https://www.digikey.com/product-detail/en/kemet/ESY108M016AH4AA/399-6637-ND/3083052; Tolerance: 20%; Voltage: 16V; Price: 0.72; Device Package: Radial, Can, 10mm
footprint CAP AL TH D10 L5 H22
pins: 1, 2

## ESY158M010AH5AA
designator C?, comment 1500uF  (value not drawn)
CAP ALUM 1500UF 20% 10V RADIAL; Part Number: ESY158M010AH5AA; Manufacturer: KEMET; TemperatureRange: -40C ~ 105C; Type: Polar; Ripple Current: 1.72A @ 120Hz; Impedance: 23 mOhm; Value: 1500uF; PartId: 26086; Supplier 1: Digi-Key; Supplier Part Number 1: 399-6638-ND; ComponentLink1Description: Datasheet; ComponentLink1URL: http://www.kemet.com/docfinder?Partnumber=ESY158M010AH5AA; ComponentLink2Description: Digi-Key Listing; ComponentLink2URL: https://www.digikey.com/product-detail/en/kemet/ESY158M010AH5AA/399-6638-ND/3083053; Tolerance: 20%; Voltage: 10V; Price: 0.73; Device Package: Radial, Can, 10mm
footprint CAP AL TH D10 L5 H30
pins: 1, 2

## ESY227M035AH1AA
designator C?, comment 220uF  (value not drawn)
CAP ALUM 220UF 20% 35V RADIAL; Part Number: ESY227M035AH1AA; Manufacturer: KEMET; TemperatureRange: -40C ~ 105C; Type: Polar; Ripple Current: 721mA @ 120Hz; Impedance: 53 mOhm; Value: 220uF; PartId: 24837; Supplier 1: Digi-Key; Supplier Part Number 1: 399-6122-ND; ComponentLink1Description: Datasheet; ComponentLink1URL: http://capacitoredge.kemet.com/capedge2/DataSheet?pn=ESY227M035AH1AA; ComponentLink2Description: Digi-Key Listing; ComponentLink2URL: https://www.digikey.com/product-detail/en/kemet/ESY227M035AH1AA/399-6122-ND/2712528; Tolerance: 20%; Voltage: 35V; Price: 0.46; Device Package: Radial, Can, 10mm
footprint CAP AL TH D10 L5 H14.5
pins: 1, 2

## ESY227M050AH2AA
designator C?, comment 220uF  (value not drawn)
CAP ALUM 220UF 20% 50V RADIAL; Part Number: ESY227M050AH2AA; Manufacturer: KEMET; TemperatureRange: -40C ~ 105C; Type: Polar; Ripple Current: 959mA @ 120Hz; Impedance: 42 mOhm; Value: 220uF; PartId: 25206; Supplier 1: Digi-Key; Supplier Part Number 1: 399-6123-ND; ComponentLink1Description: Datasheet; ComponentLink1URL: http://capacitoredge.kemet.com/capedge2/DataSheet?pn=ESY227M050AH2AA; ComponentLink2Description: Digi-Key Listing; ComponentLink2URL: https://www.digikey.com/product-detail/en/kemet/ESY227M050AH2AA/399-6123-ND/2712529; Tolerance: 20%; Voltage: 50V; Price: 0.51; Device Package: Radial, Can, 10mm
footprint CAP AL TH D10 L5 H17.5
pins: 1, 2

## ESY337M035AH2AA
designator C?, comment 330uF  (value not drawn)
CAP ALUM 330UF 20% 35V RADIAL; Part Number: ESY337M035AH2AA; Manufacturer: KEMET; TemperatureRange: -40C ~ 105C; Type: Polar; Ripple Current: 1.001A @ 120Hz; Impedance: 38 mOhm; Value: 330uF; PartId: 25376; Supplier 1: Digi-Key; Supplier Part Number 1: 399-6126-ND; ComponentLink1Description: Datasheet; ComponentLink1URL: http://capacitoredge.kemet.com/capedge2/DataSheet?pn=ESY337M035AH2AA; ComponentLink2Description: Digi-Key Listing; ComponentLink2URL: https://www.digikey.com/product-detail/en/kemet/ESY337M035AH2AA/399-6126-ND/2712531; Tolerance: 20%; Voltage: 35V; Price: 0.73; Device Package: Radial, Can, 10mm
footprint CAP AL TH D10 L5 H17.5
pins: 1, 2

## ESY476M100AH1AA
designator C?, comment 47uF  (value not drawn)
CAP ALUM 47UF 20% 100V RADIAL; Part Number: ESY476M100AH1AA; Manufacturer: KEMET; TemperatureRange: -40C ~ 105C; Type: Polar; Ripple Current: 315mA @ 120Hz; Impedance: 240 mOhm; Value: 47uF; PartId: 24728; Supplier 1: Digi-Key; Supplier Part Number 1: 399-6643-ND; ComponentLink1Description: Datasheet; ComponentLink1URL: http://www.kemet.com/docfinder?Partnumber=ESY476M100AH1AA; ComponentLink2Description: Digi-Key Listing; ComponentLink2URL: https://www.digikey.com/product-detail/en/kemet/ESY476M100AH1AA/399-6643-ND/3083058; Tolerance: 20%; Voltage: 100V; Price: 0.41; Device Package: Radial, Can, 10mm
footprint CAP AL TH D10 L5 H14.5
pins: 1, 2

## ESY827M025AH5AA
designator C?, comment 820uF  (value not drawn)
CAP ALUM 820UF 20% 25V RADIAL; Part Number: ESY827M025AH5AA; Manufacturer: KEMET; TemperatureRange: -40C ~ 105C; Type: Polar; Ripple Current: 1.612A @ 120Hz; Impedance: 23 mOhm; Value: 820uF; PartId: 26169; Supplier 1: Digi-Key; Supplier Part Number 1: 399-6647-ND; ComponentLink1Description: Datasheet; ComponentLink1URL: http://www.kemet.com/docfinder?Partnumber=ESY827M025AH5AA; ComponentLink2Description: Digi-Key Listing; ComponentLink2URL: https://www.digikey.com/product-detail/en/kemet/ESY827M025AH5AA/399-6647-ND/3083062; Tolerance: 20%; Voltage: 25V; Price: 0.94; Device Package: Radial, Can, 10mm
footprint CAP AL TH D10 L5 H30
pins: 1, 2

## LGM2W181MELZ30
designator C?, comment 180uF  (value not drawn)
CAP ALUM 180UF 20% 450V SNAP; Part Number: LGM2W181MELZ30; Manufacturer: Nichicon; TemperatureRange: -25C ~ 105C; Type: Polar; Ripple Current: 470mA @ 120Hz; Value: 180uF; PartId: 27566; Supplier 1: Digi-Key; Supplier Part Number 1: 493-14670-ND; ComponentLink1Description: Datasheet; ComponentLink1URL: //media.digikey.com/pdf/Data%20Sheets/Nichicon%20PDFs/LGM_Series_450V.pdf; ComponentLink2Description: Digi-Key Listing; ComponentLink2URL: https://www.digikey.com/product-detail/en/nichicon/LGM2W181MELZ30/493-14670-ND/6049374; Tolerance: 20%; Voltage: 450V; Price: 5.25; Device Package: Radial, Can, 22mm
footprint CAP AL TH D22 L10 H33
pins: 1, 2

## MAL203830471E3
designator C?, comment 470uF  (value not drawn)
CAP ALUM 470UF 20% 35V RADIAL; Part Number: MAL203830471E3; Manufacturer: Vishay BC Components; TemperatureRange: -40C ~ 85C; Ripple Current: 740mA; Value: 470uF; PartId: 25456; Supplier 1: Digi-Key; Supplier Part Number 1: MAL203830471E3-ND; ComponentLink1Description: Datasheet; ComponentLink1URL: http://www.vishay.com/docs/28309/038rsu.pdf; ComponentLink2Description: Digi-Key Listing; ComponentLink2URL: https://www.digikey.com/product-detail/en/vishay-bc-components/MAL203830471E3/MAL203830471E3-ND/3675028; Tolerance: 20%; Voltage: 35V; Price: 0.222; Device Package: Radial, Can, 10mm
footprint CAP AL TH D10 L5 H22
pins: 1, 2

## MAL214250102E3
designator C?, comment 1000uF  (value not drawn)
CAP ALUM 1000UF 20% 35V RADIAL; Part Number: MAL214250102E3; Manufacturer: Vishay BC Components; TemperatureRange: -40C ~ 105C; Ripple Current: 810mA; Value: 1000uF; PartId: 23340; Supplier 1: Digi-Key; Supplier Part Number 1: 4602PHBK-ND; ComponentLink1Description: Datasheet; ComponentLink1URL: http://www.vishay.com/docs/28402/142rhs.pdf; ComponentLink2Description: Digi-Key Listing; ComponentLink2URL: https://www.digikey.com/product-detail/en/vishay-bc-components/MAL214250102E3/4602PHBK-ND/2690941; Tolerance: 20%; Voltage: 35V; Price: 0.84; Device Package: Radial, Can, 12.5mm
footprint CAP AL TH D12.5 L5 H22
pins: 1, 2

## MAL214251102E3
designator C?, comment 1000uF  (value not drawn)
CAP ALUM 1000UF 20% 50V RADIAL; Part Number: MAL214251102E3; Manufacturer: Vishay BC Components; TemperatureRange: -40C ~ 105C; Ripple Current: 950mA; Value: 1000uF; PartId: 24023; Supplier 1: Digi-Key; Supplier Part Number 1: 4603PHBK-ND; ComponentLink1Description: Datasheet; ComponentLink1URL: http://www.vishay.com/docs/28402/142rhs.pdf; ComponentLink2Description: Digi-Key Listing; ComponentLink2URL: https://www.digikey.com/product-detail/en/vishay-bc-components/MAL214251102E3/4603PHBK-ND/2690959; Tolerance: 20%; Voltage: 50V; Price: 1.08; Device Package: Radial, Can, 12.5mm
footprint CAP AL TH D12.5 L5 H27
pins: 1, 2

## MAL214255102E3
designator C?, comment 1000uF  (value not drawn)
CAP ALUM 1000UF 20% 16V RADIAL; Part Number: MAL214255102E3; Manufacturer: Vishay BC Components; TemperatureRange: -40C ~ 105C; Ripple Current: 560mA; Value: 1000uF; PartId: 25224; Supplier 1: Digi-Key; Supplier Part Number 1: 4607PHBK-ND; ComponentLink1Description: Datasheet; ComponentLink1URL: http://www.vishay.com/docs/28402/142rhs.pdf; ComponentLink2Description: Digi-Key Listing; ComponentLink2URL: https://www.digikey.com/product-detail/en/vishay-bc-components/MAL214255102E3/4607PHBK-ND/2690997; Tolerance: 20%; Voltage: 16V; Price: 0.54; Device Package: Radial, Can, 10mm
footprint CAP AL TH D10 L5 H17.5
pins: 1, 2

## MAL214650102E3
designator C?, comment 1000uF  (value not drawn)
CAP ALUM 1000UF 20% 35V RADIAL; Part Number: MAL214650102E3; Manufacturer: Vishay BC Components; TemperatureRange: -55C ~ 125C; Type: Polar; Ripple Current: 2A; Impedance: 33 mOhm; Value: 1000uF; PartId: 24194; Supplier 1: Digi-Key; Supplier Part Number 1: 4489PHBK-ND; ComponentLink1Description: Datasheet; ComponentLink1URL: http://www.vishay.com/docs/28401/146rti.pdf; ComponentLink2Description: Digi-Key Listing; ComponentLink2URL: https://www.digikey.com/product-detail/en/vishay-bc-components/MAL214650102E3/4489PHBK-ND/2410354; Tolerance: 20%; Voltage: 35V; Price: 2.41; Device Package: Radial, Can, 12.5mm
footprint CAP AL TH D12.5 L5 H27
pins: 1, 2

## MAL214650272E3
designator C?, comment 2700uF  (value not drawn)
CAP ALUM 2700UF 20% 35V RADIAL; Part Number: MAL214650272E3; Manufacturer: Vishay BC Components; TemperatureRange: -55C ~ 125C; Type: Polar; Ripple Current: 3.2A; Impedance: 18 mOhm; Value: 2700uF; PartId: 27447; Supplier 1: Digi-Key; Supplier Part Number 1: 4495PHBK-ND; ComponentLink1Description: Datasheet; ComponentLink1URL: http://www.vishay.com/docs/28401/146rti.pdf; ComponentLink2Description: Digi-Key Listing; ComponentLink2URL: https://www.digikey.com/product-detail/en/vishay-bc-components/MAL214650272E3/4495PHBK-ND/2410360; Tolerance: 20%; Voltage: 35V; Price: 4.03; Device Package: Radial, Can, 16mm
footprint CAP AL TH D16 L7.5 H37
pins: 1, 2

## MAL214650331E3
designator C?, comment 330uF  (value not drawn)
CAP ALUM 330UF 20% 35V RADIAL; Part Number: MAL214650331E3; Manufacturer: Vishay BC Components; TemperatureRange: -55C ~ 125C; Type: Polar; Ripple Current: 1.1A; Impedance: 75 mOhm; Value: 330uF; PartId: 25437; Supplier 1: Digi-Key; Supplier Part Number 1: 4486PHBK-ND; ComponentLink1Description: Datasheet; ComponentLink1URL: http://www.vishay.com/docs/28401/146rti.pdf; ComponentLink2Description: Digi-Key Listing; ComponentLink2URL: https://www.digikey.com/product-detail/en/vishay-bc-components/MAL214650331E3/4486PHBK-ND/2410351; Tolerance: 20%; Voltage: 35V; Price: 1.31; Device Package: Radial, Can, 10mm
footprint CAP AL TH D10 L5 H17.5
pins: 1, 2

## MAL214650681E3
designator C?, comment 680uF  (value not drawn)
CAP ALUM 680UF 20% 35V RADIAL; Part Number: MAL214650681E3; Manufacturer: Vishay BC Components; TemperatureRange: -55C ~ 125C; Type: Polar; Ripple Current: 1.6A; Impedance: 43 mOhm; Value: 680uF; PartId: 23534; Supplier 1: Digi-Key; Supplier Part Number 1: 4488PHBK-ND; ComponentLink1Description: Datasheet; ComponentLink1URL: http://www.vishay.com/docs/28401/146rti.pdf; ComponentLink2Description: Digi-Key Listing; ComponentLink2URL: https://www.digikey.com/product-detail/en/vishay-bc-components/MAL214650681E3/4488PHBK-ND/2410353; Tolerance: 20%; Voltage: 35V; Price: 1.98; Device Package: Radial, Can, 12.5mm
footprint CAP AL TH D12.5 L5 H22
pins: 1, 2

## MAL214651221E3
designator C?, comment 220uF  (value not drawn)
CAP ALUM 220UF 20% 50V RADIAL; Part Number: MAL214651221E3; Manufacturer: Vishay BC Components; TemperatureRange: -55C ~ 125C; Type: Polar; Ripple Current: 900mA; Impedance: 120 mOhm; Value: 220uF; PartId: 25435; Supplier 1: Digi-Key; Supplier Part Number 1: 4499PHBK-ND; ComponentLink1Description: Datasheet; ComponentLink1URL: http://www.vishay.com/docs/28401/146rti.pdf; ComponentLink2Description: Digi-Key Listing; ComponentLink2URL: https://www.digikey.com/product-detail/en/vishay-bc-components/MAL214651221E3/4499PHBK-ND/2410364; Tolerance: 20%; Voltage: 50V; Price: 1.31; Device Package: Radial, Can, 10mm
footprint CAP AL TH D10 L5 H17.5
pins: 1, 2

## MAL214651331E3
designator C?, comment 330uF  (value not drawn)
CAP ALUM 330UF 20% 50V RADIAL; Part Number: MAL214651331E3; Manufacturer: Vishay BC Components; TemperatureRange: -55C ~ 125C; Type: Polar; Ripple Current: 1A; Impedance: 90 mOhm; Value: 330uF; PartId: 25997; Supplier 1: Digi-Key; Supplier Part Number 1: 4500PHBK-ND; ComponentLink1Description: Datasheet; ComponentLink1URL: http://www.vishay.com/docs/28401/146rti.pdf; ComponentLink2Description: Digi-Key Listing; ComponentLink2URL: https://www.digikey.com/product-detail/en/vishay-bc-components/MAL214651331E3/4500PHBK-ND/2410365; Tolerance: 20%; Voltage: 50V; Price: 1.52; Device Package: Radial, Can, 10mm
footprint CAP AL TH D10 L5 H22
pins: 1, 2

## MAL214651471E3
designator C?, comment 470uF  (value not drawn)
CAP ALUM 470UF 20% 50V RADIAL; Part Number: MAL214651471E3; Manufacturer: Vishay BC Components; TemperatureRange: -55C ~ 125C; Type: Polar; Ripple Current: 1.25A; Impedance: 65 mOhm; Value: 470uF; PartId: 23533; Supplier 1: Digi-Key; Supplier Part Number 1: 4501PHBK-ND; ComponentLink1Description: Datasheet; ComponentLink1URL: http://www.vishay.com/docs/28401/146rti.pdf; ComponentLink2Description: Digi-Key Listing; ComponentLink2URL: https://www.digikey.com/product-detail/en/vishay-bc-components/MAL214651471E3/4501PHBK-ND/2410366; Tolerance: 20%; Voltage: 50V; Price: 1.98; Device Package: Radial, Can, 12.5mm
footprint CAP AL TH D12.5 L5 H22
pins: 1, 2

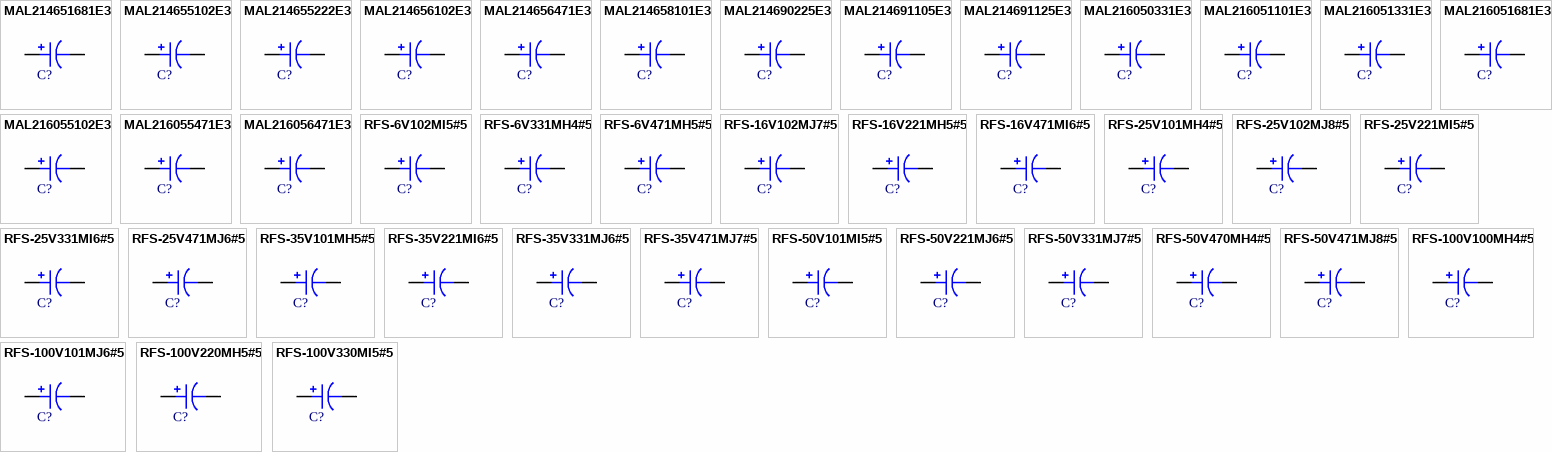
[diagram p56: symbols MAL214651681E3 to RFS-100V330MI5#5]

## MAL214651681E3
designator C?, comment 680uF  (value not drawn)
CAP ALUM 680UF 20% 50V RADIAL; Part Number: MAL214651681E3; Manufacturer: Vishay BC Components; TemperatureRange: -55C ~ 125C; Type: Polar; Ripple Current: 1.7A; Impedance: 50 mOhm; Value: 680uF; PartId: 24193; Supplier 1: Digi-Key; Supplier Part Number 1: 4502PHBK-ND; ComponentLink1Description: Datasheet; ComponentLink1URL: http://www.vishay.com/docs/28401/146rti.pdf; ComponentLink2Description: Digi-Key Listing; ComponentLink2URL: https://www.digikey.com/product-detail/en/vishay-bc-components/MAL214651681E3/4502PHBK-ND/2410367; Tolerance: 20%; Voltage: 50V; Price: 2.41; Device Package: Radial, Can, 12.5mm
footprint CAP AL TH D12.5 L5 H27
pins: 1, 2